# Altium footprint library PassiveInd.PcbLib: 16 footprints
Each footprint in its own frame and in the unit in brackets; x right, y up, seen from the top. Pads: shape width x height; smd on the part's side, far side on the other; paste and mask are expansions set on the pad; w line width, h text height; cw(c..) or ccw(c..) is an arc to the next point about the centre after c.
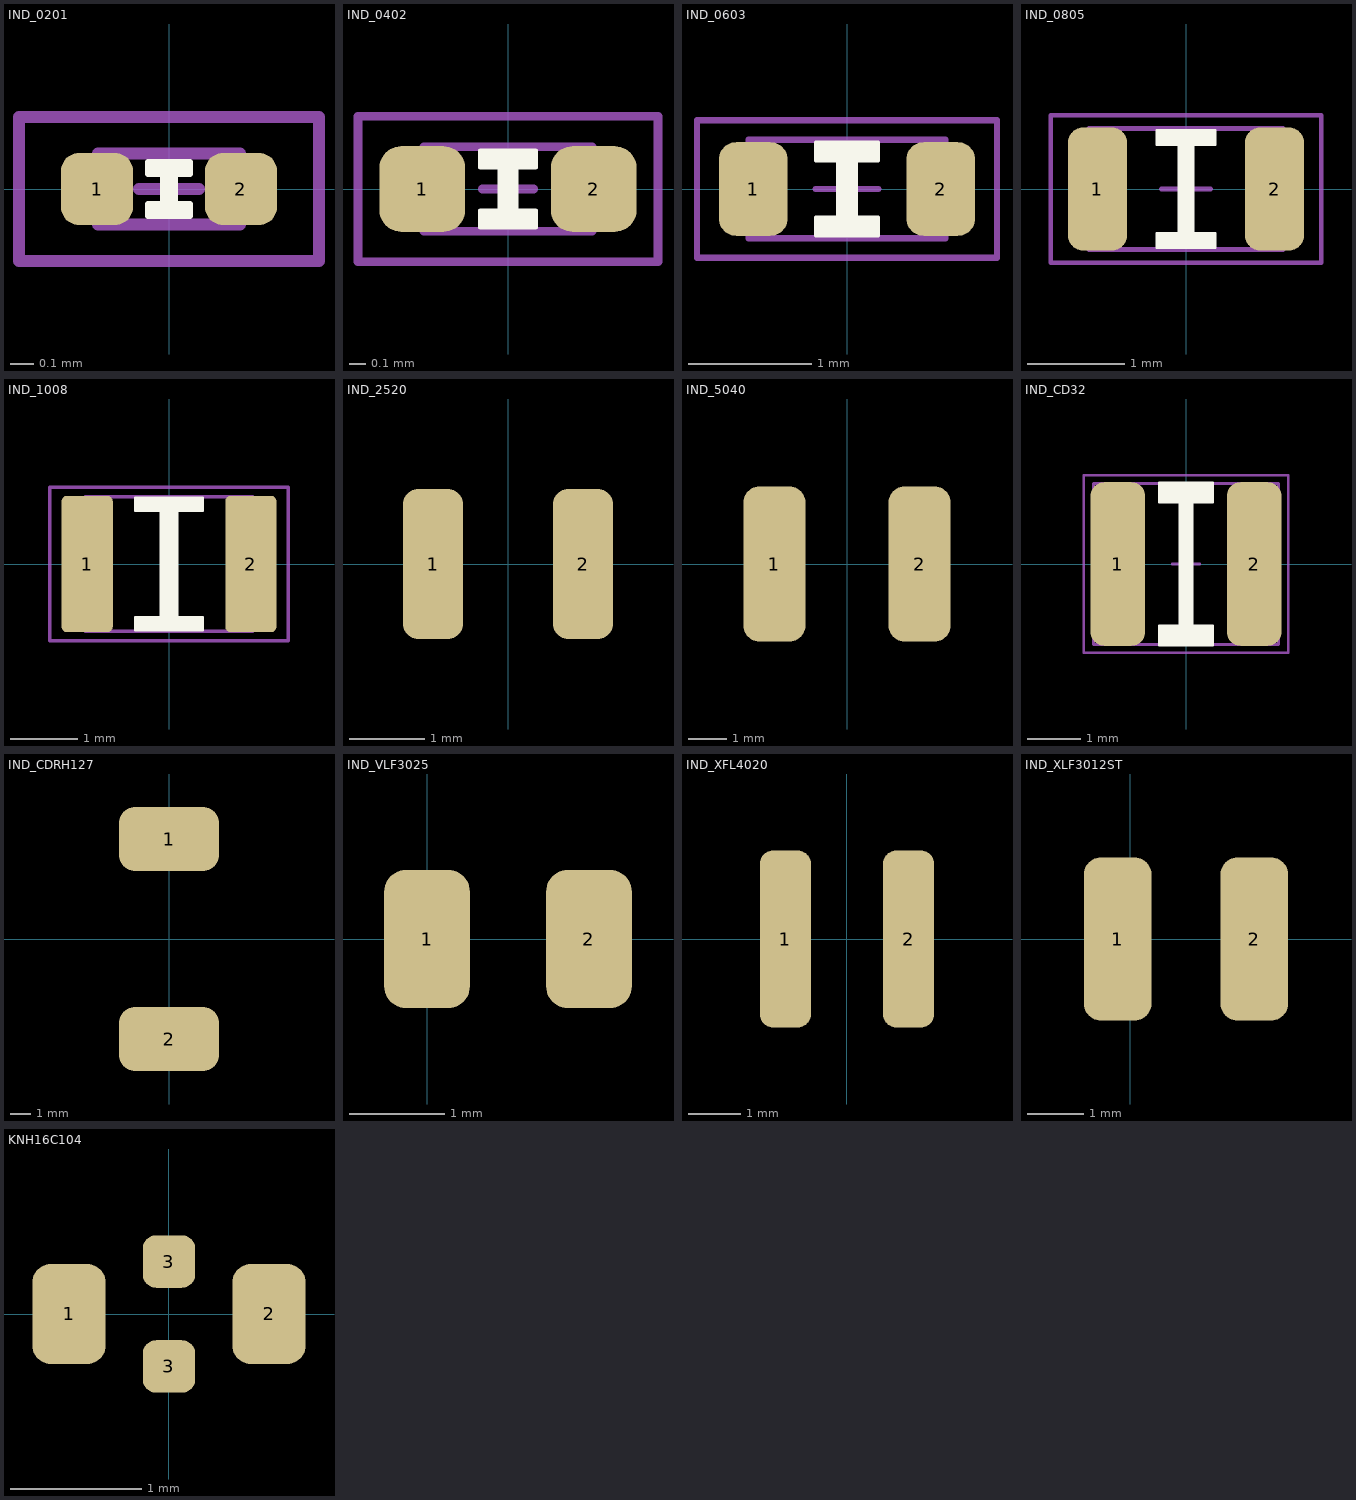
[diagram p0: the footprints below, top view; thin cyan lines are the x and y axes]

## IND_0201 [mil]
height 15.75
pads (2):
  rrect50% 12x12 smd: 1(-12,0) 2(12,0)
Top Overlay:
  region: -3.5,4.5 3.5,4.5 3.5,2.5 1,2.5 1,-2.5 3.5,-2.5 3.5,-4.5 -3.5,-4.5 -3.5,-2.5 -1,-2.5 -1,2.5 -3.5,2.5
  lines w1: -3.5,-4.5 3.5,-4.5 3.5,-2.5 1,-2.5 1,2.5 3.5,2.5 3.5,4.5 -3.5,4.5 -3.5,2.5 -1,2.5 -1,-2.5 -3.5,-2.5 -3.5,-4.5
Mechanical 13:
  lines w2: -5,0 5,0 ; 0,-5 0,5 ; -11.81,-5.91 -11.81,5.91 11.81,5.91 11.81,-5.91 -11.81,-5.91
T-Component:
  lines w2: -25,-12 -25,12 25,12 25,-12 -25,-12
  text ".Designator" at -13,-8 h30
3D body "INDC0603X03L.step": height 11.81, standoff 0, extent -11.81,-5.9 11.81,5.91

## IND_0402 [mil]
height 21.65
pads (2):
  rrect50% 20x20 smd: 1(-20,0) 2(20,0)
Top Overlay:
  region: -6.5,9 6.5,9 6.5,5 2,5 2,-5 6.5,-5 6.5,-9 -6.5,-9 -6.5,-5 -2,-5 -2,5 -6.5,5
  lines w1: -6.5,-9 -6.5,-5 -2,-5 -2,5 -6.5,5 -6.5,9 6.5,9 6.5,5 2,5 2,-5 6.5,-5 6.5,-9 -6.5,-9
Mechanical 13:
  lines w2: -6,0 6,0 ; 0,-6 0,6 ; -19.69,-9.84 -19.69,9.84 19.68,9.84 19.68,-9.84 -19.69,-9.84
T-Component:
  lines w2: -35,-17 -35,17 35,17 35,-17 -35,-17
  text ".Designator" at -14.68,-9.99 h40
3D body "INDC1005X05L.step": height 19.68, standoff 0, extent -19.68,-9.84 19.69,9.85

## IND_0603 [mil]
height 31.5
pads (2):
  rrect50% 22x30 smd: 1(-30,0) 2(30,0)
Top Overlay:
  region: -10,15 10,15 10,9 3,9 3,-9 10,-9 10,-15 -10,-15 -10,-9 -3,-9 -3,9 -10,9
  lines w1: -10,-15 -10,-9 -3,-9 -3,9 -10,9 -10,15 10,15 10,9 3,9 3,-9 10,-9 10,-15 -10,-15
Mechanical 13:
  lines w2: -10,0 10,0 ; 0,-10 0,10 ; -31.5,-15.75 -31.5,15.75 31.5,15.75 31.5,-15.75 -31.5,-15.75
T-Component:
  lines w2: -48,-22 -48,22 48,22 48,-22 -48,-22
  text ".Designator" at -25,-15 h60
3D body "INDC1608X08L.step": height 31.5, standoff 0, extent -31.49,-15.75 31.5,15.75

## IND_0805 [mil]
height 35.43
pads (2):
  rrect50% 24x50 smd: 1(-36,0) 2(36,0)
Top Overlay:
  region: -12,18 -12,24 12,24 12,18 3,18 3,-18 12,-18 12,-24 -12,-24 -12,-18 -3,-18 -3,18
  lines w1: -12,-24 -12,-18 -3,-18 -3,18 -12,18 -12,24 12,24 12,18 3,18 3,-18 12,-18 12,-24 -12,-24
Mechanical 13:
  lines w2: -10,0 10,0 ; 0,-10 0,10 ; -39.37,-24.61 39.37,-24.61 39.37,24.61 -39.37,24.61 -39.37,-24.61
T-Component:
  lines w2: -55,-30 -55,30 55,30 55,-30 -55,-30
  text ".Designator" at -31,-20 h80
3D body "INDC2012X10L.step": height 39.37, standoff 0, extent -39.37,-24.6 39.37,24.61

## IND_1008 [mil]
height 35.43
pads (2):
  rrect20% 30x80 smd: 1(-48,0) 2(48,0)
Top Overlay:
  region: -19.99,39.01 20.01,39.01 20.01,31.01 5.01,31.01 5.01,-31 20,-31 20,-39 -20,-39 -20,-31 -4.99,-31 -4.99,31.01 -19.99,31.01
  lines w1: -20,-39 -20,-31 -5,-31 -4.99,31.01 -19.99,31.01 -19.99,39.01 20.01,39.01 20.01,31.01 5.01,31.01 5.01,-31 20,-31 20,-39 -20,-39
Mechanical 13:
  lines w2: -49.21,39.37 49.21,39.37 ; -49.21,39.37 -49.21,39.37 ; -49.21,39.37 -49.21,-39.37 49.22,-39.37 49.22,39.37 ; 49.21,39.37 49.22,39.37
T-Component:
  lines w2: -70,-45 -70,45 70,45 70,-45 -70,-45
  text ".Designator" at -31,-20 h80
3D body "INDC2012X10L.step": height 39.37, standoff 0, extent -39.37,-24.6 39.37,24.61

## IND_1206 [mil]
height 35.43
3D body "INDC3216X130N EIA 1206.step": height 51.18, standoff 0, extent -62.99,-31.49 63,31.5

## IND_1210 [mil]
height 35.43
3D body "INDC3225X135N EIA 1210.step": height 53.15, standoff 0, extent -62.99,-49.2 63,49.22

## IND_2520 [mm]
pads (2):
  rrect50% 0.8x2 smd paste+0 mask+0.102: 1(-1,0) 2(1,0)
3D body "DFE252010P-R47M=P2.STEP": height 1, standoff 0, extent -1.25,-1 1.25,1

## IND_5040 [mm]
pads (2):
  rrect50% 1.6x4 smd: 1(-1.875,0) 2(1.875,0)
3D body "User Library-SRN5040.STEP": height 4, standoff 0, extent -2.47,-2.5 2.53,2.5

## IND_CD32 [mil]
pads (2):
  rrect50% 40x120 smd: 1(-50,0) 2(50,0)
Top Overlay:
  region: -20,60 20,60 20,45 5,45 5,-45 20,-45 20,-60 -20,-60 -20,-45 -5,-45 -5,45 -20,45
  lines w1: -20,-60 -20,-45 -5,-45 -5,45 -20,45 -20,60 20,60 20,45 5,45 5,-45 20,-45 20,-60 -20,-60
Mechanical 13:
  lines w2: -10,0 10,0 ; 0,-10 0,10 ; -67.88,-59.05 67.88,-59.05 67.88,59.06 -67.88,59.06 -67.88,-59.05
T-Component:
  lines w2: -75,-65 75,-65 75,65 -75,65 -75,-65
3D body "User Library-CD32-3_5x2_1.STEP": height 82.68, standoff 0, extent -67.88,-59.05 67.88,59.06

## IND_CDRH127 [mm]
pads (2):
  rrect50% 5x3.2 smd: 1(0,5) 2(0,-5)
3D body "SUMIDA-CDRH127.STEP": height 7.5, standoff 0.05, extent -6.025,-6.174 5.975,6.167

## IND_VLF3025 [mm]
pads (2):
  rrect50% 0.9x1.45 smd: 1(0,0) 2(1.7,0)
3D body "User Library-VLF3025.STEP": height 1.55, standoff 0, extent -0.4,-1.5 2.1,1.5

## IND_XFL4020 [mm]
pads (2):
  rrect50% 0.98x3.4 smd: 1(-1.185,0) 2(1.185,0)
3D body "Coilcraft-XFL4020.STEP": height 2, standoff -0.1, extent -2.15,-2.15 2.15,2.15

## IND_XLF3012ST [mm]
pads (2):
  rrect50% 1.2x2.9 smd: 1(-0.225,0) 2(2.2,0)
3D body "Coilcraft-XFL3012.STEP": height 1.25, standoff -0.05, extent -0.6,-1.6 2.6,1.6

## KNH16C104 [mil]
pads (4):
  rrect50% 22x30 smd: 1(-30,0) 2(30,0)
  rrect50% 15.75x15.75 smd: 3(0,-15.75) 3(0,15.75)
3D body "User Library-EMIFIL_0603.step": height 23.77, standoff 0, extent -31.5,-16.1 31.5,16.12

## Z_REC [mil]
3D body "User Library-Chip Inductor.step": height 31.5, standoff 0, extent 40.5,-17.7 103.5,19.7
3D body "INDC1608X08L.step": height 31.5, standoff 0, extent -31.49,-15.74 31.5,15.75
3D body "INDC1005X05L.step": height 19.68, standoff 0, extent -19.68,25.16 19.69,44.85
3D body "User Library-Chip Inductor 0402.step": height 19.68, standoff 0, extent 52.31,23.19 91.69,46.81